# Altium schematic symbol library kmilo17pet-TI_StepDown.SchLib: 565 symbols (part 18 of 33)
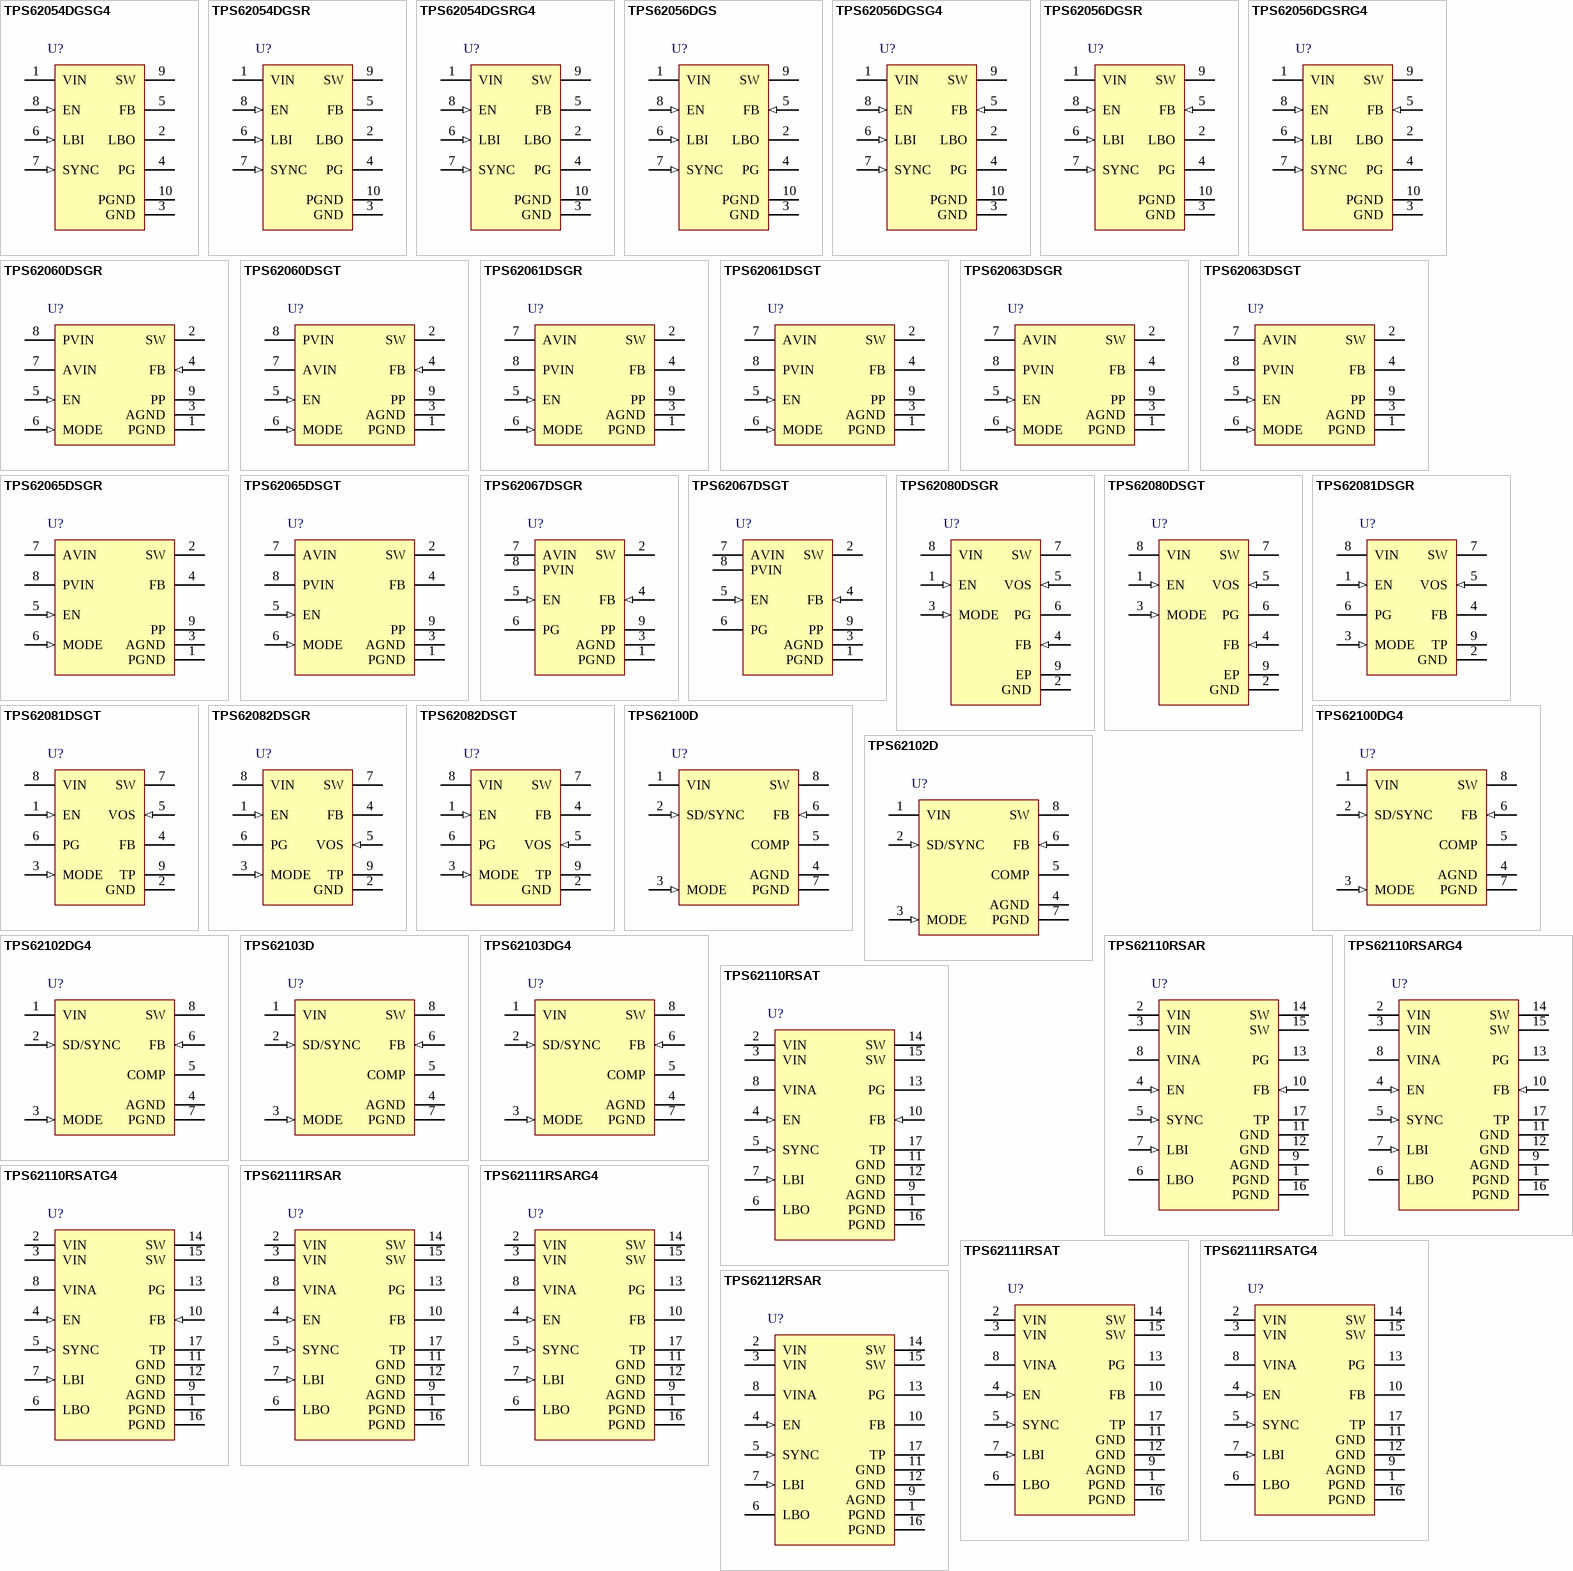
[diagram p36: symbols TPS62054DGSG4 to TPS62112RSAR]

## TPS62063DSGR
designator U?
Buck Step Down Regulator with 2.7 to 6 V Input and 3.3 V Output, -40 to 85 degC, 8-Pin WSON (DSG), Green (RoHS & no Sb/Br); Manufacturer: Texas Instruments; PartNumber: TPS62063DSGR; Duty Cycle(Max)(%): 100; Iout(Max)(A): 1.6; Iq(Typ)(mA): 0.018; Preset Vout(V): 3.3; Rating: Catalog; Regulated Outputs(#): 1; SubFamily: Step-Down Regulator; Switch Current Limit(Typ)(A): 2.25; Synchronous Rectification: TRUE; Vin(Max)(V): 6; Vin(Min)(V): 2.7; DatasheetVersion: SLVSA95A; PackageVersion: revB, Oct-2010; PackageReference: DSG8-1600X900TP; PackageDescription: 8-Pin Plastic Small Outline No-Lead, 2 x 2 x 0.8 mm Body, 0.5 mm Pitch, Exposed Pad; Supplier 1: Digi-Key; Supplier Part Number 1: TPS62063DSGR-ND; Eco-Plan: Green (RoHS & no Sb/Br); Topology: Buck; Vout(Max)(V): 3.3; Vout(Min)(V): 3.3; Mounting Technology: Surface Mount; Code_JEDEC: MO-229; ComponentLink1Description: Datasheet; ComponentLink1URL: http://www.ti.com/general/docs/lit/getliterature.tsp?genericPartNumber=TPS62063&fileType=pdf; ComponentLink2Description: Package Specification; ComponentLink2URL: http://www.ti.com/litv/pdf/mpds308a; ComponentLink3Description: URL Link1; ComponentLink3URL: Samples URL:http://www.ti.com/product/tps62063#samples
footprint DSG8-1600X900TP (SON, 8-Leads, Body 2x2mm, Pitch 0.5mm, Thermal Pad 1.6x0.9mm, TI Recommended)
pins: 1 PGND (power) "GND supply pin for the output stage.", 2 SW (power) "This is the switch pin and is connected to the internal MOSFET switch.Connect the external inductor between this terminal and the output capacitor.", 3 AGND (power) "Analog GND supply pin for the control circuit.", 4 FB "Feedback pin for the internal regulation loop.Connect the external resistor divider to this pin.In case of fixed output voltage option,connect this pin directly to the output capacitor.", 5 EN (in) "This is the enable pin of the device.Pulling this pin to low forces the device into shutdown mode.Pulling this pin to high enables the device.This pin must be terminated.", 6 MODE (in) "MODE: MODE pin = high forces the device to operate in fixed frequency PWM mode. MODE pin = low enables the Power Save Mode with automatic transition from PFM mode to fixed frequency PWM mode.", 7 AVIN (power) "Analog VIN power supply for the control circuit.Need to be connected to PVIN and input capacitor.", 8 PVIN (power) "VIN power supply pin for the output stage.", 9 PP (power) "For good thermal performance,this PAD must be soldered to the land pattern on the pcb.This PAD should be used as device GND."

## TPS62063DSGT
designator U?
Buck Step Down Regulator with 2.7 to 6 V Input and 3.3 V Output, -40 to 85 degC, 8-Pin WSON (DSG), Green (RoHS & no Sb/Br); Manufacturer: Texas Instruments; PartNumber: TPS62063DSGT; Duty Cycle(Max)(%): 100; Iout(Max)(A): 1.6; Iq(Typ)(mA): 0.018; Preset Vout(V): 3.3; Rating: Catalog; Regulated Outputs(#): 1; SubFamily: Step-Down Regulator; Switch Current Limit(Typ)(A): 2.25; Synchronous Rectification: TRUE; Vin(Max)(V): 6; Vin(Min)(V): 2.7; DatasheetVersion: SLVSA95A; PackageVersion: revB, Oct-2010; PackageReference: DSG8-1600X900TP; PackageDescription: 8-Pin Plastic Small Outline No-Lead, 2 x 2 x 0.8 mm Body, 0.5 mm Pitch, Exposed Pad; Supplier 1: Digi-Key; Supplier Part Number 1: 296-28460-2-ND; Eco-Plan: Green (RoHS & no Sb/Br); Topology: Buck; Vout(Max)(V): 3.3; Vout(Min)(V): 3.3; Mounting Technology: Surface Mount; Code_JEDEC: MO-229; ComponentLink1Description: Datasheet; ComponentLink1URL: http://www.ti.com/general/docs/lit/getliterature.tsp?genericPartNumber=TPS62063&fileType=pdf; ComponentLink2Description: Package Specification; ComponentLink2URL: http://www.ti.com/litv/pdf/mpds308a; ComponentLink3Description: URL Link1; ComponentLink3URL: Samples URL:http://www.ti.com/product/tps54611#samples
footprint DSG8-1600X900TP (SON, 8-Leads, Body 2x2mm, Pitch 0.5mm, Thermal Pad 1.6x0.9mm, TI Recommended)
pins: 1 PGND (power) "GND supply pin for the output stage.", 2 SW (power) "This is the switch pin and is connected to the internal MOSFET switch.Connect the external inductor between this terminal and the output capacitor.", 3 AGND (power) "Analog GND supply pin for the control circuit.", 4 FB "Feedback pin for the internal regulation loop.Connect the external resistor divider to this pin.In case of fixed output voltage option,connect this pin directly to the output capacitor.", 5 EN (in) "This is the enable pin of the device.Pulling this pin to low forces the device into shutdown mode.Pulling this pin to high enables the device.This pin must be terminated.", 6 MODE (in) "MODE: MODE pin = high forces the device to operate in fixed frequency PWM mode. MODE pin = low enables the Power Save Mode with automatic transition from PFM mode to fixed frequency PWM mode.", 7 AVIN (power) "Analog VIN power supply for the control circuit.Need to be connected to PVIN and input capacitor.", 8 PVIN (power) "VIN power supply pin for the output stage.", 9 PP (power) "For good thermal performance,this PAD must be soldered to the land pattern on the pcb.This PAD should be used as device GND."

## TPS62065DSGR
designator U?
Buck Step Down Regulator with 2.9 to 6 V Input and 0.8 to 6 V Output, -40 to 85 degC, 8-Pin WSON (DSG), Green (RoHS & no Sb/Br); Manufacturer: Texas Instruments; PartNumber: TPS62065DSGR; Duty Cycle(Max)(%): 100; Iout(Max)(A): 2; Iq(Typ)(mA): 0.018; Rating: Catalog; Regulated Outputs(#): 1; SubFamily: Step-Down Regulator; Switch Current Limit(Typ)(A): 2.75; Synchronous Rectification: TRUE; Vin(Max)(V): 6; Vin(Min)(V): 2.9; Vout(Min)(V): 0.8; DatasheetVersion: SLVS833A; PackageVersion: revB, Oct-2010; PackageReference: DSG8-1600X900TP; PackageDescription: 8-Pin Plastic Small Outline No-Lead, 2 x 2 x 0.8 mm Body, 0.5 mm Pitch, Exposed Pad; Supplier 1: Digi-Key; Supplier Part Number 1: TPS62065DSGR-ND; Eco-Plan: Green (RoHS & no Sb/Br); Topology: Buck; Vout(Max)(V): 6; Mounting Technology: Surface Mount; Code_JEDEC: MO-229; ComponentLink1Description: Datasheet; ComponentLink1URL: http://www.ti.com/general/docs/lit/getliterature.tsp?genericPartNumber=TPS62065&fileType=pdf; ComponentLink2Description: Package Specification; ComponentLink2URL: http://www.ti.com/litv/pdf/mpds308a; ComponentLink3Description: URL Link1; ComponentLink3URL: Samples URL:http://www.ti.com/product/tps62065#samples
footprint DSG8-1600X900TP (SON, 8-Leads, Body 2x2mm, Pitch 0.5mm, Thermal Pad 1.6x0.9mm, TI Recommended)
pins: 1 PGND (power) "GND supply pin for the output stage.", 2 SW (power) "This is the switch pin and is connected to the internal MOSFET switches. Connect the external inductor between this terminal and the output capacitor.", 3 AGND (power) "Analog GND supply pin for the control circuit.", 4 FB "Feedback pin for the internal regulation loop. Connect the external resistor divider to this pin.In case of fixed output voltage option, connect this pin directly to the output capacitor", 5 EN (in) "This is the enable pin of the device. Pulling this pin to low forces the device into shutdown mode. Pulling this pin to high enables the device. This pin must be terminated", 6 MODE (in) "MODE: MODE pin = high forces the device to operate in fixed frequency PWM mode. MODE pin = low enables the Power Save Mode with automatic transition from PFM mode to fixed frequency PWM mode. This pin must be terminated.", 7 AVIN (power) "Analog VIN power supply for the control circuit. Need to be connected to PVIN and input capacitor.", 8 PVIN (power) "VIN power supply pin for the output stage.", 9 PP (power) "For good thermal performance, this PAD must be soldered to the land pattern on the pcb.This PAD should be used as device GND."

## TPS62065DSGT
designator U?
Buck Step Down Regulator with 2.9 to 6 V Input and 0.8 to 6 V Output, -40 to 85 degC, 8-Pin WSON (DSG), Green (RoHS & no Sb/Br); Manufacturer: Texas Instruments; PartNumber: TPS62065DSGT; Duty Cycle(Max)(%): 100; Iout(Max)(A): 2; Iq(Typ)(mA): 0.018; Rating: Catalog; Regulated Outputs(#): 1; SubFamily: Step-Down Regulator; Switch Current Limit(Typ)(A): 2.75; Synchronous Rectification: TRUE; Vin(Max)(V): 6; Vin(Min)(V): 2.9; Vout(Max)(V): 0.8; DatasheetVersion: SLVS833A; PackageVersion: revB, Oct-2010; PackageReference: DSG8-1600X900TP; PackageDescription: 8-Pin Plastic Small Outline No-Lead, 2 x 2 x 0.8 mm Body, 0.5 mm Pitch, Exposed Pad; Supplier 1: Digi-Key; Supplier Part Number 1: 296-27204-2-ND; Eco-Plan: Green (RoHS & no Sb/Br); Topology: Buck; Vout(Min)(V): 6; Mounting Technology: Surface Mount; Code_JEDEC: MO-229; ComponentLink1Description: Datasheet; ComponentLink1URL: http://www.ti.com/general/docs/lit/getliterature.tsp?genericPartNumber=TPS62065&fileType=pdf; ComponentLink2Description: Package Specification; ComponentLink2URL: http://www.ti.com/litv/pdf/mpds308a; ComponentLink3Description: URL Link1; ComponentLink3URL: Samples URL:http://www.ti.com/product/tps54611#samples
footprint DSG8-1600X900TP (SON, 8-Leads, Body 2x2mm, Pitch 0.5mm, Thermal Pad 1.6x0.9mm, TI Recommended)
pins: 1 PGND (power) "GND supply pin for the output stage.", 2 SW (power) "This is the switch pin and is connected to the internal MOSFET switches. Connect the external inductor between this terminal and the output capacitor.", 3 AGND (power) "Analog GND supply pin for the control circuit.", 4 FB "Feedback pin for the internal regulation loop. Connect the external resistor divider to this pin.In case of fixed output voltage option, connect this pin directly to the output capacitor", 5 EN (in) "This is the enable pin of the device. Pulling this pin to low forces the device into shutdown mode. Pulling this pin to high enables the device. This pin must be terminated", 6 MODE (in) "MODE: MODE pin = high forces the device to operate in fixed frequency PWM mode. MODE pin = low enables the Power Save Mode with automatic transition from PFM mode to fixed frequency PWM mode. This pin must be terminated.", 7 AVIN (power) "Analog VIN power supply for the control circuit. Need to be connected to PVIN and input capacitor.", 8 PVIN (power) "VIN power supply pin for the output stage.", 9 PP (power) "For good thermal performance, this PAD must be soldered to the land pattern on the pcb.This PAD should be used as device GND."

## TPS62067DSGR
designator U?
Buck Step Down Regulator with 2.9 to 6 V Input and 0.8 to 6 V Output, -40 to 85 degC, 8-Pin WSON (DSG), Green (RoHS & no Sb/Br); Manufacturer: Texas Instruments; PartNumber: TPS62067DSGR; Duty Cycle(Max)(%): 100; Iout(Max)(A): 2; Iq(Typ)(mA): 0.018; Rating: Catalog; Regulated Outputs(#): 1; SubFamily: Step-Down Regulator; Switch Current Limit(Typ)(A): 2.75; Synchronous Rectification: TRUE; Vin(Max)(V): 6; Vin(Min)(V): 2.9; Vout(Min)(V): 0.8; DatasheetVersion: SLVS833A; PackageVersion: revB, Oct-2010; PackageReference: DSG8-1600X900TP; PackageDescription: 8-Pin Plastic Small Outline No-Lead, 2 x 2 x 0.8 mm Body, 0.5 mm Pitch, Exposed Pad; Supplier 1: Digi-Key; Supplier Part Number 1: TPS62067DSGR-ND; Eco-Plan: Green (RoHS & no Sb/Br); Topology: Buck; Vout(Max)(V): 6; Mounting Technology: Surface Mount; Code_JEDEC: MO-229; ComponentLink1Description: Datasheet; ComponentLink1URL: http://www.ti.com/general/docs/lit/getliterature.tsp?genericPartNumber=TPS62067&fileType=pdf; ComponentLink2Description: Package Specification; ComponentLink2URL: http://www.ti.com/litv/pdf/mpds308a; ComponentLink3Description: URL Link1; ComponentLink3URL: Samples URL:http://www.ti.com/product/tps62067#samples
footprint DSG8-1600X900TP (SON, 8-Leads, Body 2x2mm, Pitch 0.5mm, Thermal Pad 1.6x0.9mm, TI Recommended)
pins: 1 PGND (power) "GND supply pin for the output stage.", 2 SW (power) "This is the switch pin and is connected to the internal MOSFET switches. Connect the external inductor between this terminal and the output capacitor.", 3 AGND (power) "Analog GND supply pin for the control circuit.", 4 FB (in) "Feedback pin for the internal regulation loop. Connect the external resistor divider to this pin. In case of fixed output voltage option, connect this pin directly to the output capacitor", 5 EN (in) "This is the enable pin of the device. Pulling this pin to low forces the device into shutdown mode. Pulling this pin to high enables the device. This pin must be terminated", 6 PG (oc) "MODE: MODE pin = high forces the device to operate in fixed frequency PWM mode. MODE pin = low enables the Power Save Mode with automatic transition from PFM mode to fixed frequency PWM mode. This pin must be terminated.", 7 AVIN (power) "Analog VIN power supply for the control circuit. Need to be connected to PVIN and input capacitor.", 8 PVIN (power) "VIN power supply pin for the output stage.", 9 PP (power) "For good thermal performance, this PAD must be soldered to the land pattern on the pcb. This PAD should be used as device GND."

## TPS62067DSGT
designator U?
Buck Step Down Regulator with 2.9 to 6 V Input and 0.8 to 6 V Output, -40 to 85 degC, 8-Pin WSON (DSG), Green (RoHS & no Sb/Br); Manufacturer: Texas Instruments; PartNumber: TPS62067DSGT; Duty Cycle(Max)(%): 100; Iout(Max)(A): 2; Iq(Typ)(mA): 0.018; Rating: Catalog; Regulated Outputs(#): 1; SubFamily: Step-Down Regulator; Switch Current Limit(Typ)(A): 2.75; Synchronous Rectification: TRUE; Vin(Max)(V): 6; Vin(Min)(V): 2.9; Vout(Min)(V): 0.8; DatasheetVersion: SLVS833A; PackageVersion: revB, Oct-2010; PackageReference: DSG8-1600X900TP; PackageDescription: 8-Pin Plastic Small Outline No-Lead, 2 x 2 x 0.8 mm Body, 0.5 mm Pitch, Exposed Pad; Supplier 1: Digi-Key; Supplier Part Number 1: 296-27205-2-ND; Eco-Plan: Green (RoHS & no Sb/Br); Topology: Buck; Vout(Max)(V): 6; Mounting Technology: Surface Mount; Code_JEDEC: MO-229; ComponentLink1Description: Datasheet; ComponentLink1URL: http://www.ti.com/general/docs/lit/getliterature.tsp?genericPartNumber=TPS62067&fileType=pdf; ComponentLink2Description: Package Specification; ComponentLink2URL: http://www.ti.com/litv/pdf/mpds308a; ComponentLink3Description: URL Link1; ComponentLink3URL: Samples URL:http://www.ti.com/product/tps62067#samples
footprint DSG8-1600X900TP (SON, 8-Leads, Body 2x2mm, Pitch 0.5mm, Thermal Pad 1.6x0.9mm, TI Recommended)
pins: 1 PGND (power) "GND supply pin for the output stage.", 2 SW (power) "This is the switch pin and is connected to the internal MOSFET switches. Connect the external inductor between this terminal and the output capacitor.", 3 AGND (power) "Analog GND supply pin for the control circuit.", 4 FB (in) "Feedback pin for the internal regulation loop. Connect the external resistor divider to this pin. In case of fixed output voltage option, connect this pin directly to the output capacitor", 5 EN (in) "This is the enable pin of the device. Pulling this pin to low forces the device into shutdown mode. Pulling this pin to high enables the device. This pin must be terminated", 6 PG (oc) "MODE: MODE pin = high forces the device to operate in fixed frequency PWM mode. MODE pin = low enables the Power Save Mode with automatic transition from PFM mode to fixed frequency PWM mode. This pin must be terminated.", 7 AVIN (power) "Analog VIN power supply for the control circuit. Need to be connected to PVIN and input capacitor.", 8 PVIN (power) "VIN power supply pin for the output stage.", 9 PP (power) "For good thermal performance, this PAD must be soldered to the land pattern on the pcb. This PAD should be used as device GND."

## TPS62080DSGR
designator U?
Buck Adjustable Regulator with 2.3 to 6 V Input and 0.5 to 4 V Output, -40 to 85 degC, 8-Pin WSON (DSG), Green (RoHS & no Sb/Br); Manufacturer: Texas Instruments; PartNumber: TPS62080DSGR; Duty Cycle(Max)(%): 100; Iout(Max)(A): 1.2; Iq(Typ)(mA): 0.0065; PWM Mode: TRUE; Rating: Catalog; Regulated Outputs(#): 1; SubFamily: Step-Down Regulator; Switch Current Limit(Typ)(A): 2.8; Vin(Max)(V): 6; Vin(Min)(V): 2.3; Vout(Max)(V): 4; Vout(Min)(V): 0.5; DatasheetVersion: SLVSAE8B; PackageVersion: revB, Oct-2010; PackageReference: DSG8-1600X900TP; PackageDescription: 8-Pin Plastic Small Outline No-Lead, 2 x 2 x 0.8 mm Body, 0.5 mm Pitch, Exposed Pad; Supplier 1: Digi-Key; Supplier Part Number 1: TPS62080DSGR-ND; Eco-Plan: Green (RoHS & no Sb/Br); Synchronous Rectification: TRUE; Topology: Buck; Mounting Technology: Surface Mount; Code_JEDEC: MO-229; ComponentLink1Description: Datasheet; ComponentLink1URL: http://www.ti.com/general/docs/lit/getliterature.tsp?genericPartNumber=TPS62080&fileType=pdf; ComponentLink2Description: Package Specification; ComponentLink2URL: http://www.ti.com/litv/pdf/mpds308a; ComponentLink3Description: URL Link1; ComponentLink3URL: Samples URL:http://www.ti.com/product/tps62080#samples
footprint DSG8-1600X900TP (SON, 8-Leads, Body 2x2mm, Pitch 0.5mm, Thermal Pad 1.6x0.9mm, TI Recommended)
pins: 1 EN (in) "Device Enable Logic Input. Logic HIGH enables the device, logic LOW disables the device and turns it into shutdown", 2 GND (power) "Power and Signal Ground.", 3 MODE (in) "Snooze Mode Enable Logic Input. Logic HIGH enables the Snooze Mode, logic LOW disables the Snooze Mode", 4 FB (in) "Feedback Pin for the internal control loop. Connect this pin to the external feedback divider for the adjustable output version. For the fixed output voltage versions this pin must be left floating or connected to GND.", 5 VOS (in) "Output Voltage Sense Pin for the internal control loop. Must be connected to output.", 6 PG (hiz) "Power Good open drain output. This pin is pulled to low if the output voltage is below regulation limits. Can be left floating if not used.", 7 SW (power) "Switch Pin connected to the internal MOSFET switches and inductor terminal. Connect the inductor of the output filter here.", 8 VIN (power) "Power Supply Voltage Input.", 9 EP (power) "Connect it to GND"

## TPS62080DSGT
designator U?
Buck Adjustable Regulator with 2.3 to 6 V Input and 0.5 to 4 V Output, -40 to 85 degC, 8-Pin WSON (DSG), Green (RoHS & no Sb/Br); Manufacturer: Texas Instruments; PartNumber: TPS62080DSGT; Duty Cycle(Max)(%): 100; Iout(Max)(A): 1.2; Iq(Typ)(mA): 0.0065; PWM Mode: TRUE; Rating: Catalog; Regulated Outputs(#): 1; SubFamily: Step-Down Regulator; Switch Current Limit(Typ)(A): 2.8; Vin(Max)(V): 6; Vin(Min)(V): 2.3; Vout(Max)(V): 4; Vout(Min)(V): 0.5; DatasheetVersion: SLVSAE8B; PackageVersion: revB, Oct-2010; PackageReference: DSG8-1600X900TP; PackageDescription: 8-Pin Plastic Small Outline No-Lead, 2 x 2 x 0.8 mm Body, 0.5 mm Pitch, Exposed Pad; Supplier 1: Digi-Key; Supplier Part Number 1: 296-29645-2-ND; Supplier 7: Mouser; Supplier Part Number 7: 595-TPS62080DSGT; Eco-Plan: Green (RoHS & no Sb/Br); Synchronous Rectification: TRUE; Topology: Buck; Mounting Technology: Surface Mount; Code_JEDEC: MO-229; ComponentLink1Description: Datasheet; ComponentLink1URL: http://www.ti.com/general/docs/lit/getliterature.tsp?genericPartNumber=TPS62080&fileType=pdf; ComponentLink2Description: Package Specification; ComponentLink2URL: http://www.ti.com/litv/pdf/mpds308a; ComponentLink3Description: URL Link1; ComponentLink3URL: Samples URL:http://www.ti.com/product/tps54611#samples
footprint DSG8-1600X900TP (SON, 8-Leads, Body 2x2mm, Pitch 0.5mm, Thermal Pad 1.6x0.9mm, TI Recommended)
pins: 1 EN (in) "Device Enable Logic Input. Logic HIGH enables the device, logic LOW disables the device and turns it into shutdown", 2 GND (power) "Power and Signal Ground.", 3 MODE (in) "Snooze Mode Enable Logic Input. Logic HIGH enables the Snooze Mode, logic LOW disables the Snooze Mode", 4 FB (in) "Feedback Pin for the internal control loop. Connect this pin to the external feedback divider for the adjustable output version. For the fixed output voltage versions this pin must be left floating or connected to GND.", 5 VOS (in) "Output Voltage Sense Pin for the internal control loop. Must be connected to output.", 6 PG (hiz) "Power Good open drain output. This pin is pulled to low if the output voltage is below regulation limits. Can be left floating if not used.", 7 SW (power) "Switch Pin connected to the internal MOSFET switches and inductor terminal. Connect the inductor of the output filter here.", 8 VIN (power) "Power Supply Voltage Input.", 9 EP (power) "Connect it to GND"

## TPS62081DSGR
designator U?
Buck Step Down Regulator with 2.3 to 6 V Input and 1.8 V Output, -40 to 85 degC, 8-Pin WSON (DSG), Green (RoHS & no Sb/Br); Manufacturer: Texas Instruments; PartNumber: TPS62081DSGR; Duty Cycle(Max)(%): 100; Iout(Max)(A): 1.2; Iq(Typ)(mA): 0.006; Rating: Catalog; Regulated Outputs(#): 1; SubFamily: Step-Down Regulator; Switch Current Limit(Typ)(A): 2.8; Vin(Max)(V): 6; Vin(Min)(V): 2.3; Vout(Max)(V): 1.8; DatasheetVersion: SLVSAE8B; PackageVersion: revB, Oct-2010; PackageReference: DSG8-1600X900TP; PackageDescription: 8-Pin Plastic Small Outline No-Lead, 2 x 2 x 0.8 mm Body, 0.5 mm Pitch, Exposed Pad; Supplier 1: Digi-Key; Supplier Part Number 1: TPS62081DSGR-ND; Eco-Plan: Green (RoHS & no Sb/Br); Topology: Buck; Vout(Min)(V): 1.8; Mounting Technology: Surface Mount; Code_JEDEC: MO-229; ComponentLink1Description: Datasheet; ComponentLink1URL: http://www.ti.com/general/docs/lit/getliterature.tsp?genericPartNumber=TPS62081&fileType=pdf; ComponentLink2Description: Package Specification; ComponentLink2URL: http://www.ti.com/litv/pdf/mpds308a; ComponentLink3Description: URL Link1; ComponentLink3URL: Samples URL:http://www.ti.com/product/tps62081#samples
footprint DSG8-1600X900TP (SON, 8-Leads, Body 2x2mm, Pitch 0.5mm, Thermal Pad 1.6x0.9mm, TI Recommended)
pins: 1 EN (in) "Device Enable Logic Input. Logic HIGH enables the device, logic LOW disables the device and turns it into shutdown.", 2 GND (power) "Power and Signal Ground.", 3 MODE (in) "Snooze Mode Enable Logic Input. Logic HIGH enables the Snooze Mode, logic LOW disables the Snooze Mode", 4 FB "Feedback Pin for the internal control loop. Connect this pin to the external feedback divider for the adjustable output version. For the fixed output voltage versions this pin must be left floating or connected to GND.", 5 VOS (in) "Output Voltage Sense Pin for the internal control loop. Must be connected to output.", 6 PG (hiz) "Power Good open drain output. This pin is pulled to low if the output voltage is below regulation limits. Can be left floating if not used.", 7 SW (power) "Switch Pin connected to the internal MOSFET switches and inductor terminal. Connect the inductor of the output filter here.", 8 VIN (power) "Power Supply Voltage Input.", 9 TP (power) "Connect it to GND."

## TPS62081DSGT
designator U?
Buck Step Down Regulator with 2.3 to 6 V Input and 1.8 V Output, -40 to 85 degC, 8-Pin WSON (DSG), Green (RoHS & no Sb/Br); Manufacturer: Texas Instruments; PartNumber: TPS62081DSGT; Duty Cycle(Max)(%): 100; Iout(Max)(A): 1.2; Iq(Typ)(mA): 0.006; Rating: Catalog; Regulated Outputs(#): 1; SubFamily: Step-Down Regulator; Switch Current Limit(Typ)(A): 2.8; Vin(Max)(V): 6; Vin(Min)(V): 2.3; Vout(Max)(V): 1.8; DatasheetVersion: SLVSAE8B; PackageVersion: revB, Oct-2010; PackageReference: DSG8-1600X900TP; PackageDescription: 8-Pin Plastic Small Outline No-Lead, 2 x 2 x 0.8 mm Body, 0.5 mm Pitch, Exposed Pad; Supplier 1: Digi-Key; Supplier Part Number 1: 296-29646-2-ND; Supplier 7: Mouser; Supplier Part Number 7: 595-TPS62081DSGT; Eco-Plan: Green (RoHS & no Sb/Br); Topology: Buck; Vout(Min)(V): 1.8; Mounting Technology: Surface Mount; Code_JEDEC: MO-229; ComponentLink1Description: Datasheet; ComponentLink1URL: http://www.ti.com/general/docs/lit/getliterature.tsp?genericPartNumber=TPS62081&fileType=pdf; ComponentLink2Description: Package Specification; ComponentLink2URL: http://www.ti.com/litv/pdf/mpds308a; ComponentLink3Description: URL Link1; ComponentLink3URL: Samples URL:http://www.ti.com/product/tps54611#samples
footprint DSG8-1600X900TP (SON, 8-Leads, Body 2x2mm, Pitch 0.5mm, Thermal Pad 1.6x0.9mm, TI Recommended)
pins: 1 EN (in) "Device Enable Logic Input. Logic HIGH enables the device, logic LOW disables the device and turns it into shutdown.", 2 GND (power) "Power and Signal Ground.", 3 MODE (in) "Snooze Mode Enable Logic Input. Logic HIGH enables the Snooze Mode, logic LOW disables the Snooze Mode", 4 FB "Feedback Pin for the internal control loop. Connect this pin to the external feedback divider for the adjustable output version. For the fixed output voltage versions this pin must be left floating or connected to GND.", 5 VOS (in) "Output Voltage Sense Pin for the internal control loop. Must be connected to output.", 6 PG (hiz) "Power Good open drain output. This pin is pulled to low if the output voltage is below regulation limits. Can be left floating if not used.", 7 SW (power) "Switch Pin connected to the internal MOSFET switches and inductor terminal. Connect the inductor of the output filter here.", 8 VIN (power) "Power Supply Voltage Input.", 9 TP (power) "Connect it to GND."

## TPS62082DSGR
designator U?
Buck Step Down Regulator with 2.3 to 6 V Input and 3.3 V Output, -40 to 85 degC, 8-Pin WSON (DSG), Green (RoHS & no Sb/Br); Manufacturer: Texas Instruments; PartNumber: TPS62082DSGR; Duty Cycle(Max)(%): 100; Iout(Max)(A): 1.2; Iq(Typ)(mA): 0.006; Rating: Catalog; Regulated Outputs(#): 1; SubFamily: Step-Down Regulator; Switch Current Limit(Typ)(A): 2.4; Vin(Max)(V): 6; Vin(Min)(V): 2.3; Vout(Max)(V): 3.3; DatasheetVersion: SLVSAE8B; PackageVersion: revB, Oct-2010; PackageReference: DSG8-1600X900TP; PackageDescription: 8-Pin Plastic Small Outline No-Lead, 2 x 2 x 0.8 mm Body, 0.5 mm Pitch, Exposed Pad; Supplier 1: Digi-Key; Supplier Part Number 1: TPS62082DSGR-ND; Eco-Plan: Green (RoHS & no Sb/Br); Topology: Buck; Vout(Min)(V): 3.3; Mounting Technology: Surface Mount; Code_JEDEC: MO-229; ComponentLink1Description: Datasheet; ComponentLink1URL: http://www.ti.com/general/docs/lit/getliterature.tsp?genericPartNumber=TPS62082&fileType=pdf; ComponentLink2Description: Package Specification; ComponentLink2URL: http://www.ti.com/litv/pdf/mpds308a; ComponentLink3Description: URL Link1; ComponentLink3URL: Samples URL:http://www.ti.com/product/tps62082#samples
footprint DSG8-1600X900TP (SON, 8-Leads, Body 2x2mm, Pitch 0.5mm, Thermal Pad 1.6x0.9mm, TI Recommended)
pins: 1 EN (in) "Device Enable Logic Input. Logic HIGH enables the device, logic LOW disables the device and turns it into shutdown.", 2 GND (power) "Power and Signal Ground.", 3 MODE (in) "Snooze Mode Enable Logic Input. Logic HIGH enables the Snooze Mode, logic LOW disables the Snooze Mode", 4 FB "Feedback Pin for the internal control loop. Connect this pin to the external feedback divider for the adjustable output version. For the fixed output voltage versions this pin must be left floating or connected to GND.", 5 VOS (in) "Output Voltage Sense Pin for the internal control loop. Must be connected to output.", 6 PG (hiz) "Power Good open drain output. This pin is pulled to low if the output voltage is below regulation limits. Can be left floating if not used", 7 SW (power) "Switch Pin connected to the internal MOSFET switches and inductor terminal. Connect the inductor of the output filter here.", 8 VIN (power) "Power Supply Voltage Input.", 9 TP (power) "Connect it to GND."

## TPS62082DSGT
designator U?
Buck Step Down Regulator with 2.3 to 6 V Input and 3.3 V Output, -40 to 85 degC, 8-Pin WSON (DSG), Green (RoHS & no Sb/Br); Manufacturer: Texas Instruments; PartNumber: TPS62082DSGT; Duty Cycle(Max)(%): 100; Iout(Max)(A): 1.2; Iq(Typ)(mA): 0.006; Rating: Catalog; Regulated Outputs(#): 1; SubFamily: Step-Down Regulator; Switch Current Limit(Typ)(A): 2.8; Vin(Max)(V): 6; Vin(Min)(V): 2.3; Vout(Max)(V): 3.3; DatasheetVersion: SLVSAE8B; PackageVersion: revB, Oct-2010; PackageReference: DSG8-1600X900TP; PackageDescription: 8-Pin Plastic Small Outline No-Lead, 2 x 2 x 0.8 mm Body, 0.5 mm Pitch, Exposed Pad; Supplier 1: Digi-Key; Supplier Part Number 1: 296-29647-2-ND; Supplier 7: Mouser; Supplier Part Number 7: 595-TPS62082DSGT; Eco-Plan: Green (RoHS & no Sb/Br); Topology: Buck; Vout(Min)(V): 3.3; Mounting Technology: Surface Mount; Code_JEDEC: MO-229; ComponentLink1Description: Datasheet; ComponentLink1URL: http://www.ti.com/general/docs/lit/getliterature.tsp?genericPartNumber=TPS62082&fileType=pdf; ComponentLink2Description: Package Specification; ComponentLink2URL: http://www.ti.com/litv/pdf/mpds308a; ComponentLink3Description: URL Link1; ComponentLink3URL: Samples URL:http://www.ti.com/product/tps54611#samples
footprint DSG8-1600X900TP (SON, 8-Leads, Body 2x2mm, Pitch 0.5mm, Thermal Pad 1.6x0.9mm, TI Recommended)
pins: 1 EN (in) "Device Enable Logic Input. Logic HIGH enables the device, logic LOW disables the device and turns it into shutdown.", 2 GND (power) "Power and Signal Ground.", 3 MODE (in) "Snooze Mode Enable Logic Input. Logic HIGH enables the Snooze Mode, logic LOW disables the Snooze Mode", 4 FB "Feedback Pin for the internal control loop. Connect this pin to the external feedback divider for the adjustable output version. For the fixed output voltage versions this pin must be left floating or connected to GND.", 5 VOS (in) "Output Voltage Sense Pin for the internal control loop. Must be connected to output.", 6 PG (hiz) "Power Good open drain output. This pin is pulled to low if the output voltage is below regulation limits. Can be left floating if not used", 7 SW (power) "Switch Pin connected to the internal MOSFET switches and inductor terminal. Connect the inductor of the output filter here.", 8 VIN (power) "Power Supply Voltage Input.", 9 TP (power) "Connect it to GND."

## TPS62100D
designator U?
Buck Step-Down Regulator with 2.5 V to 9 V Input and 0.8 V to 8 V Output, -40 to 85 degC, 8-Pin SOIC (D), Green (RoHS & no Sb/Br); Manufacturer: Texas Instruments; PartNumber: TPS62100D; Duty Cycle(Max)(%): 100; Iout(Max)(A): 0.5; Iq(Typ)(mA): 0.164; Rating: Catalog; Regulated Outputs(#): 1; Switch Current Limit(Typ)(A): 1.1; Synchronous Rectification: TRUE; Vin(Max)(V): 9; Vin(Min)(V): 2.5; Vout(Max)(V): 8; Vout(Min)(V): 0.8; DatasheetVersion: SLUS446B; PackageVersion: revM, Jun-2011; PackageReference: D8; PackageDescription: 8-Pin Plastic Small Outline Integrated Circuit, 4.9 x 3.9 mm, Pitch 1.27 mm Pitch; Supplier 1: Digi-Key; Supplier Part Number 1: 296-10976-5-ND; Eco-Plan: Green (RoHS & no Sb/Br); SubFamily: Step-Down Regulator; Topology: Buck; Mounting Technology: Surface Mount; Code_JEDEC: MS-012AA; ComponentLink1Description: Datasheet; ComponentLink1URL: http://www.ti.com/general/docs/lit/getliterature.tsp?genericPartNumber=TPS62100&fileType=pdf; ComponentLink2Description: Package Specification; ComponentLink2URL: http://www.ti.com/litv/pdf/msoi002j
footprint D8_N (SOIC, 8-Leads, Body 4.9x3.9mm, Pitch 1.27mm, IPC Medium Density)
footprint D8_L (SOIC, 8-Leads, Body 4.9x3.9mm, Pitch 1.27mm, IPC High Density)
footprint D8_M (SOIC, 8-Leads, Body 4.9x3.9mm, Pitch 1.27mm, IPC Low Density)
pins: 1 VIN (power) "Input to the converter.", 2 SD/SYNC (in) "This dual function pin serves as the SYNC and SHUTDOWN input. To synchronize the internal clock, this pin must be driven from 0 V to 2 V. The clock syncs on the rising edge of the input pulse. To shutdown the converter,this (See Datasheet)", 3 MODE (in) "This pin allows the user to program the IC into one of three operating modes. Driving the pin high forces the converter into the constant-frequency mode. Driving the pin low forces it into the low-power mode. Letting the pin (See Datasheet)", 4 AGND (power) "Reference point for the internal reference and all thresholds, as well as the return for the remainder of the device.", 5 COMP (hiz) "Output of the error amplifier. The loop compensation network connects between this pin and FB. When the converter enters the light-load mode, this pin goes into a high-impedance state..", 6 FB (in) "Feedback voltage input. In the constant-frequency mode, the output duty cycle is varied to keep this pin at 800 mV. In light-load mode, this pin is kept between 785 mV and 815 mV. If this pin falls below 770 mV while the (See Datasheet)", 7 PGND (power) "Return for all high-level currents.", 8 SW (power) "This is the PWM power output of the converter and is connected to an L-C (inductor-capacitor) filter and a Schottky catch diode."

## TPS62100DG4
designator U?
Buck Step-Down Regulator with 2.5 V to 9 V Input and 0.8 V to 8 V Output, -40 to 85 degC, 8-Pin SOIC (D), Green (RoHS & no Sb/Br); Manufacturer: Texas Instruments; PartNumber: TPS62100DG4; Duty Cycle(Max)(%): 100; Iout(Max)(A): 0.5; Iq(Typ)(mA): 0.164; Rating: Catalog; Regulated Outputs(#): 1; Switch Current Limit(Typ)(A): 1.1; Synchronous Rectification: TRUE; Vin(Max)(V): 9; Vin(Min)(V): 2.5; Vout(Max)(V): 8; Vout(Min)(V): 0.8; DatasheetVersion: SLUS446B; PackageVersion: revM, Jun-2011; PackageReference: D8; PackageDescription: 8-Pin Plastic Small Outline Integrated Circuit, 4.9 x 3.9 mm, Pitch 1.27 mm Pitch; Supplier 1: Digi-Key; Supplier Part Number 1: TPS62100DG4-ND; Eco-Plan: Green (RoHS & no Sb/Br); SubFamily: Step-Down Regulator; Topology: Buck; Mounting Technology: Surface Mount; Code_JEDEC: MS-012AA; ComponentLink1Description: Datasheet; ComponentLink1URL: http://www.ti.com/general/docs/lit/getliterature.tsp?genericPartNumber=TPS62100&fileType=pdf; ComponentLink2Description: Package Specification; ComponentLink2URL: http://www.ti.com/litv/pdf/msoi002j
footprint D8_N (SOIC, 8-Leads, Body 4.9x3.9mm, Pitch 1.27mm, IPC Medium Density)
footprint D8_L (SOIC, 8-Leads, Body 4.9x3.9mm, Pitch 1.27mm, IPC High Density)
footprint D8_M (SOIC, 8-Leads, Body 4.9x3.9mm, Pitch 1.27mm, IPC Low Density)
pins: 1 VIN (power) "Input to the converter.", 2 SD/SYNC (in) "This dual function pin serves as the SYNC and SHUTDOWN input. To synchronize the internal clock, this pin must be driven from 0 V to 2 V. The clock syncs on the rising edge of the input pulse. To shutdown the converter,this (See Datasheet)", 3 MODE (in) "This pin allows the user to program the IC into one of three operating modes. Driving the pin high forces the converter into the constant-frequency mode. Driving the pin low forces it into the low-power mode. Letting the pin (See Datasheet)", 4 AGND (power) "Reference point for the internal reference and all thresholds, as well as the return for the remainder of the device.", 5 COMP (hiz) "Output of the error amplifier. The loop compensation network connects between this pin and FB. When the converter enters the light-load mode, this pin goes into a high-impedance state..", 6 FB (in) "Feedback voltage input. In the constant-frequency mode, the output duty cycle is varied to keep this pin at 800 mV. In light-load mode, this pin is kept between 785 mV and 815 mV. If this pin falls below 770 mV while the (See Datasheet)", 7 PGND (power) "Return for all high-level currents.", 8 SW (power) "This is the PWM power output of the converter and is connected to an L-C (inductor-capacitor) filter and a Schottky catch diode."

## TPS62102D
designator U?
Buck Step-Down Regulator with 2.5 V to 9 V Input and 0.8 V to 8 V Output, -40 to 85 degC, 8-Pin SOIC (D), Green (RoHS & no Sb/Br); Manufacturer: Texas Instruments; PartNumber: TPS62102D; Duty Cycle(Max)(%): 100; Iout(Max)(A): 0.5; Iq(Typ)(mA): 0.164; Rating: Catalog; Regulated Outputs(#): 1; Switch Current Limit(Typ)(A): 1.1; Synchronous Rectification: TRUE; Vin(Max)(V): 9; Vin(Min)(V): 2.5; Vout(Max)(V): 8; Vout(Min)(V): 0.8; DatasheetVersion: SLUS446B; PackageVersion: revM, Jun-2011; PackageReference: D8; PackageDescription: 8-Pin Plastic Small Outline Integrated Circuit, 4.9 x 3.9 mm, Pitch 1.27 mm Pitch; Supplier 1: Digi-Key; Supplier Part Number 1: 296-10978-5-ND; Eco-Plan: Green (RoHS & no Sb/Br); SubFamily: Step-Down Regulator; Topology: Buck; Mounting Technology: Surface Mount; Code_JEDEC: MS-012AA; ComponentLink1Description: Datasheet; ComponentLink1URL: http://www.ti.com/general/docs/lit/getliterature.tsp?genericPartNumber=TPS62102&fileType=pdf; ComponentLink2Description: Package Specification; ComponentLink2URL: http://www.ti.com/litv/pdf/msoi002j
footprint D8_N (SOIC, 8-Leads, Body 4.9x3.9mm, Pitch 1.27mm, IPC Medium Density)
footprint D8_L (SOIC, 8-Leads, Body 4.9x3.9mm, Pitch 1.27mm, IPC High Density)
footprint D8_M (SOIC, 8-Leads, Body 4.9x3.9mm, Pitch 1.27mm, IPC Low Density)
pins: 1 VIN (power) "Input to the converter", 2 SD/SYNC (in) "This dual function pin serves as the SYNC and SHUTDOWN input. To synchronize the internal clock, this pin must be driven from 0 V to 2 V. The clock syncs on the rising edge of the input pulse. To shutdown the converter,this (See Datasheet)", 3 MODE (in) "This pin allows the user to program the IC into one of three operating modes. Driving the pin high forces the converter into the constant-frequency mode. Driving the pin low forces it into the low-power mode. Letting the pin (See Datasheet)", 4 AGND (power) "Reference point for the internal reference and all thresholds, as well as the return for the remainder of the device.", 5 COMP (hiz) "Output of the error amplifier. The loop compensation network connects between this pin and FB. When the converter enters the light-load mode, this pin goes into a high-impedance state..", 6 FB (in) "Feedback voltage input. In the constant-frequency mode, the output duty cycle is varied to keep this pin at 800 mV. In light-load mode, this pin is kept between 785 mV and 815 mV. If this pin falls below 770 mV while the (See Datasheet)", 7 PGND (power) "Return for all high-level currents.", 8 SW (power) "This is the PWM power output of the converter and is connected to an L-C (inductor-capacitor) filter and a Schottky catch diode."

## TPS62102DG4
designator U?
Buck Step-Down Regulator with 2.5 V to 9 V Input and 0.8 V to 8 V Output, -40 to 85 degC, 8-Pin SOIC (D), Green (RoHS & no Sb/Br); Manufacturer: Texas Instruments; PartNumber: TPS62102DG4; Duty Cycle(Max)(%): 100; Iout(Max)(A): 0.5; Iq(Typ)(mA): 0.164; Rating: Catalog; Regulated Outputs(#): 1; Switch Current Limit(Typ)(A): 1.1; Synchronous Rectification: TRUE; Vin(Max)(V): 9; Vin(Min)(V): 2.5; Vout(Max)(V): 8; Vout(Min)(V): 0.8; DatasheetVersion: SLUS446B; PackageVersion: revM, Jun-2011; PackageReference: D8; PackageDescription: 8-Pin Plastic Small Outline Integrated Circuit, 4.9 x 3.9 mm, Pitch 1.27 mm Pitch; Supplier 1: Digi-Key; Supplier Part Number 1: TPS62102DG4-ND; Eco-Plan: Green (RoHS & no Sb/Br); SubFamily: Step-Down Regulator; Topology: Buck; Mounting Technology: Surface Mount; Code_JEDEC: MS-012AA; ComponentLink1Description: Datasheet; ComponentLink1URL: http://www.ti.com/general/docs/lit/getliterature.tsp?genericPartNumber=TPS62102&fileType=pdf; ComponentLink2Description: Package Specification; ComponentLink2URL: http://www.ti.com/litv/pdf/msoi002j
footprint D8_N (SOIC, 8-Leads, Body 4.9x3.9mm, Pitch 1.27mm, IPC Medium Density)
footprint D8_L (SOIC, 8-Leads, Body 4.9x3.9mm, Pitch 1.27mm, IPC High Density)
footprint D8_M (SOIC, 8-Leads, Body 4.9x3.9mm, Pitch 1.27mm, IPC Low Density)
pins: 1 VIN (power) "Input to the converter", 2 SD/SYNC (in) "This dual function pin serves as the SYNC and SHUTDOWN input. To synchronize the internal clock, this pin must be driven from 0 V to 2 V. The clock syncs on the rising edge of the input pulse. To shutdown the converter,this (See Datasheet)", 3 MODE (in) "This pin allows the user to program the IC into one of three operating modes. Driving the pin high forces the converter into the constant-frequency mode. Driving the pin low forces it into the low-power mode. Letting the pin (See Datasheet)", 4 AGND (power) "Reference point for the internal reference and all thresholds, as well as the return for the remainder of the device.", 5 COMP (hiz) "Output of the error amplifier. The loop compensation network connects between this pin and FB. When the converter enters the light-load mode, this pin goes into a high-impedance state..", 6 FB (in) "Feedback voltage input. In the constant-frequency mode, the output duty cycle is varied to keep this pin at 800 mV. In light-load mode, this pin is kept between 785 mV and 815 mV. If this pin falls below 770 mV while the (See Datasheet)", 7 PGND (power) "Return for all high-level currents.", 8 SW (power) "This is the PWM power output of the converter and is connected to an L-C (inductor-capacitor) filter and a Schottky catch diode."

## TPS62103D
designator U?
Buck Step-Down Regulator with 2.5 V to 9 V Input and 0.8 V to 8 V Output, -40 to 85 degC, 8-Pin SOIC (D), Green (RoHS & no Sb/Br); Manufacturer: Texas Instruments; PartNumber: TPS62103D; Duty Cycle(Max)(%): 100; Iout(Max)(A): 0.5; Iq(Typ)(mA): 0.164; Rating: Catalog; Regulated Outputs(#): 1; Switch Current Limit(Typ)(A): 1.1; Synchronous Rectification: TRUE; Vin(Max)(V): 9; Vin(Min)(V): 2.5; Vout(Max)(V): 8; Vout(Min)(V): 0.8; DatasheetVersion: SLUS446B; PackageVersion: revM, Jun-2011; PackageReference: D8; PackageDescription: 8-Pin Plastic Small Outline Integrated Circuit, 4.9 x 3.9 mm, Pitch 1.27 mm Pitch; Supplier 1: Digi-Key; Supplier Part Number 1: 296-10979-5-ND; Eco-Plan: Green (RoHS & no Sb/Br); SubFamily: Step-Down Regulator; Topology: Buck; Mounting Technology: Surface Mount; Code_JEDEC: MS-012AA; ComponentLink1Description: Datasheet; ComponentLink1URL: http://www.ti.com/general/docs/lit/getliterature.tsp?genericPartNumber=TPS62103&fileType=pdf; ComponentLink2Description: Package Specification; ComponentLink2URL: http://www.ti.com/litv/pdf/msoi002j
footprint D8_N (SOIC, 8-Leads, Body 4.9x3.9mm, Pitch 1.27mm, IPC Medium Density)
footprint D8_L (SOIC, 8-Leads, Body 4.9x3.9mm, Pitch 1.27mm, IPC High Density)
footprint D8_M (SOIC, 8-Leads, Body 4.9x3.9mm, Pitch 1.27mm, IPC Low Density)
pins: 1 VIN (power) "Input to the converter.", 2 SD/SYNC (in) "This dual function pin serves as the SYNC and SHUTDOWN input. To synchronize the internal clock, this pin must be driven from 0 V to 2 V. The clock syncs on the rising edge of the input pulse. To shutdown the converter,this (See Datasheet)", 3 MODE (in) "This pin allows the user to program the IC into one of three operating modes. Driving the pin high forces the converter into the constant-frequency mode. Driving the pin low forces it into the low-power mode. Letting the pin (See Datasheet)", 4 AGND (power) "Reference point for the internal reference and all thresholds, as well as the return for the remainder of the device.", 5 COMP (hiz) "Output of the error amplifier. The loop compensation network connects between this pin and FB. When the converter enters the light-load mode, this pin goes into a high-impedance state..", 6 FB (in) "Feedback voltage input. In the constant-frequency mode, the output duty cycle is varied to keep this pin at 800 mV. In light-load mode, this pin is kept between 785 mV and 815 mV. If this pin falls below 770 mV while the (See Datasheet)", 7 PGND (power) "Return for all high-level currents", 8 SW (power) "This is the PWM power output of the converter and is connected to an L-C (inductor-capacitor) filter and a Schottky catch diode."

## TPS62103DG4
designator U?
Buck Step-Down Regulator with 2.5 V to 9 V Input and 0.8 V to 8 V Output, -40 to 85 degC, 8-Pin SOIC (D), Green (RoHS & no Sb/Br); Manufacturer: Texas Instruments; PartNumber: TPS62103DG4; Duty Cycle(Max)(%): 100; Iout(Max)(A): 0.5; Iq(Typ)(mA): 0.164; Rating: Catalog; Regulated Outputs(#): 1; Switch Current Limit(Typ)(A): 1.1; Synchronous Rectification: TRUE; Vin(Max)(V): 9; Vin(Min)(V): 2.5; Vout(Max)(V): 8; Vout(Min)(V): 0.8; DatasheetVersion: SLUS446B; PackageVersion: revM, Jun-2011; PackageReference: D8; PackageDescription: 8-Pin Plastic Small Outline Integrated Circuit, 4.9 x 3.9 mm, Pitch 1.27 mm Pitch; Supplier 1: Digi-Key; Supplier Part Number 1: TPS62103DG4-ND; Eco-Plan: Green (RoHS & no Sb/Br); SubFamily: Step-Down Regulator; Topology: Buck; Mounting Technology: Surface Mount; Code_JEDEC: MS-012AA; ComponentLink1Description: Datasheet; ComponentLink1URL: http://www.ti.com/general/docs/lit/getliterature.tsp?genericPartNumber=TPS62103&fileType=pdf; ComponentLink2Description: Package Specification; ComponentLink2URL: http://www.ti.com/litv/pdf/msoi002j
footprint D8_N (SOIC, 8-Leads, Body 4.9x3.9mm, Pitch 1.27mm, IPC Medium Density)
footprint D8_L (SOIC, 8-Leads, Body 4.9x3.9mm, Pitch 1.27mm, IPC High Density)
footprint D8_M (SOIC, 8-Leads, Body 4.9x3.9mm, Pitch 1.27mm, IPC Low Density)
pins: 1 VIN (power) "Input to the converter.", 2 SD/SYNC (in) "This dual function pin serves as the SYNC and SHUTDOWN input. To synchronize the internal clock, this pin must be driven from 0 V to 2 V. The clock syncs on the rising edge of the input pulse. To shutdown the converter,this (See Datasheet)", 3 MODE (in) "This pin allows the user to program the IC into one of three operating modes. Driving the pin high forces the converter into the constant-frequency mode. Driving the pin low forces it into the low-power mode. Letting the pin (See Datasheet)", 4 AGND (power) "Reference point for the internal reference and all thresholds, as well as the return for the remainder of the device.", 5 COMP (hiz) "Output of the error amplifier. The loop compensation network connects between this pin and FB. When the converter enters the light-load mode, this pin goes into a high-impedance state..", 6 FB (in) "Feedback voltage input. In the constant-frequency mode, the output duty cycle is varied to keep this pin at 800 mV. In light-load mode, this pin is kept between 785 mV and 815 mV. If this pin falls below 770 mV while the (See Datasheet)", 7 PGND (power) "Return for all high-level currents", 8 SW (power) "This is the PWM power output of the converter and is connected to an L-C (inductor-capacitor) filter and a Schottky catch diode."

## TPS62110RSAR
designator U?
Buck Adjustable Regulator with 3.1 to 17 V Input and 1.2 to 16 V Output, -40 to 85 degC, 16-Pin QFN (RSA), Green (RoHS & no Sb/Br); Manufacturer: Texas Instruments; PartNumber: TPS62110RSAR; Duty Cycle(Max)(%): 100; Iout(Max)(A): 1.5; Iq(Typ)(mA): 0.02; Rating: Catalog; Regulated Outputs(#): 1; SubFamily: Step-Down Regulator; Switch Current Limit(Typ)(A): 2.4; Synchronous Rectification: TRUE; Vin(Max)(V): 17; Vin(Min)(V): 3.1; Vout(Max)(V): 16; Vout(Min)(V): 1.2; DatasheetVersion: SLVS585A; PackageVersion: revD, Jun-2011; PackageReference: RSA16-2700X2700TP; PackageDescription: 16-Pin Plastic Quad Flatpack No-Lead 0.65 mm Pitch; Supplier 1: Digi-Key; Supplier Part Number 1: 296-24839-2-ND; Eco-Plan: Green (RoHS & no Sb/Br); Topology: Buck; Mounting Technology: Surface Mount; Code_JEDEC: MO-220; ComponentLink1Description: Datasheet; ComponentLink1URL: http://www.ti.com/general/docs/lit/getliterature.tsp?genericPartNumber=TPS62110&fileType=pdf; ComponentLink2Description: Package Specification; ComponentLink2URL: http://www.ti.com/litv/pdf/mpqf145c; ComponentLink3Description: URL Link1; ComponentLink3URL: Samples URL:http://www.ti.com/product/tps62110#samples
footprint RSA16-2700X2700TP (QFN, 16-Leads, Body 4x4mm, Pitch 0.65mm, Thermal Pad 2.7x2.7mm, TI Recommended)
pins: 1 PGND (power) "Power ground. Connect all power grounds to this pin.", 2 VIN (power) "Supply voltage input (power stage).", 3 VIN (power) "Supply voltage input (power stage).", 4 EN (in) "Enable. A logic high enables the converter; logic low forces the device into shutdown mode reducing the supply current to less than 2 uA.", 5 SYNC (in) "Input for synchronization to external clock signal. Synchronizes the converter switching frequency to an external clock signal with CMOS level: SYNC = HIGH: Low-noise mode enabled, fixed frequency PWM operation is forced (See Datasheet)", 6 LBO (hiz) "Open-drain, low-battery output. This pin is pulled low if LBI is below its threshold.", 7 LBI (in) "Low-battery input.", 8 VINA (power) "Supply voltage input (support circuits).", 9 AGND (power) "Analog ground, connect to GND and PGND.", 10 FB (in) "Feedback pin for the fixed output voltage option. For the adjustable version, an external resistive divider is connected to this pin. The internal voltage divider is disabled for the adjustable version.", 11 GND (power) "Ground.", 12 GND (power) "Ground.", 13 PG (oc) "Power good comparator output. This is an open-drain output. A pullup resistor should be connected between PG and VOUT. The output goes active high when the output voltage is greater than 98.4% of the nominal value.", 14 SW (power) "Connect the inductor to this pin. This pin is the switch pin and connected to the drain of the internal power MOSFETS.", 15 SW (power) "Connect the inductor to this pin. This pin is the switch pin and connected to the drain of the internal power MOSFETS.", 16 PGND (power) "Power ground. Connect all power grounds to this pin.", 17 TP (power) "Connect to AGND."